# Altium footprint library CartSimple.PCBLIB: 166 footprints (part 6 of 11)
Each footprint in its own frame and in the unit in brackets; x right, y up, seen from the top. Pads: shape width x height; smd on the part's side, far side on the other; paste and mask are expansions set on the pad; w line width, h text height; cw(c..) or ccw(c..) is an arc to the next point about the centre after c.
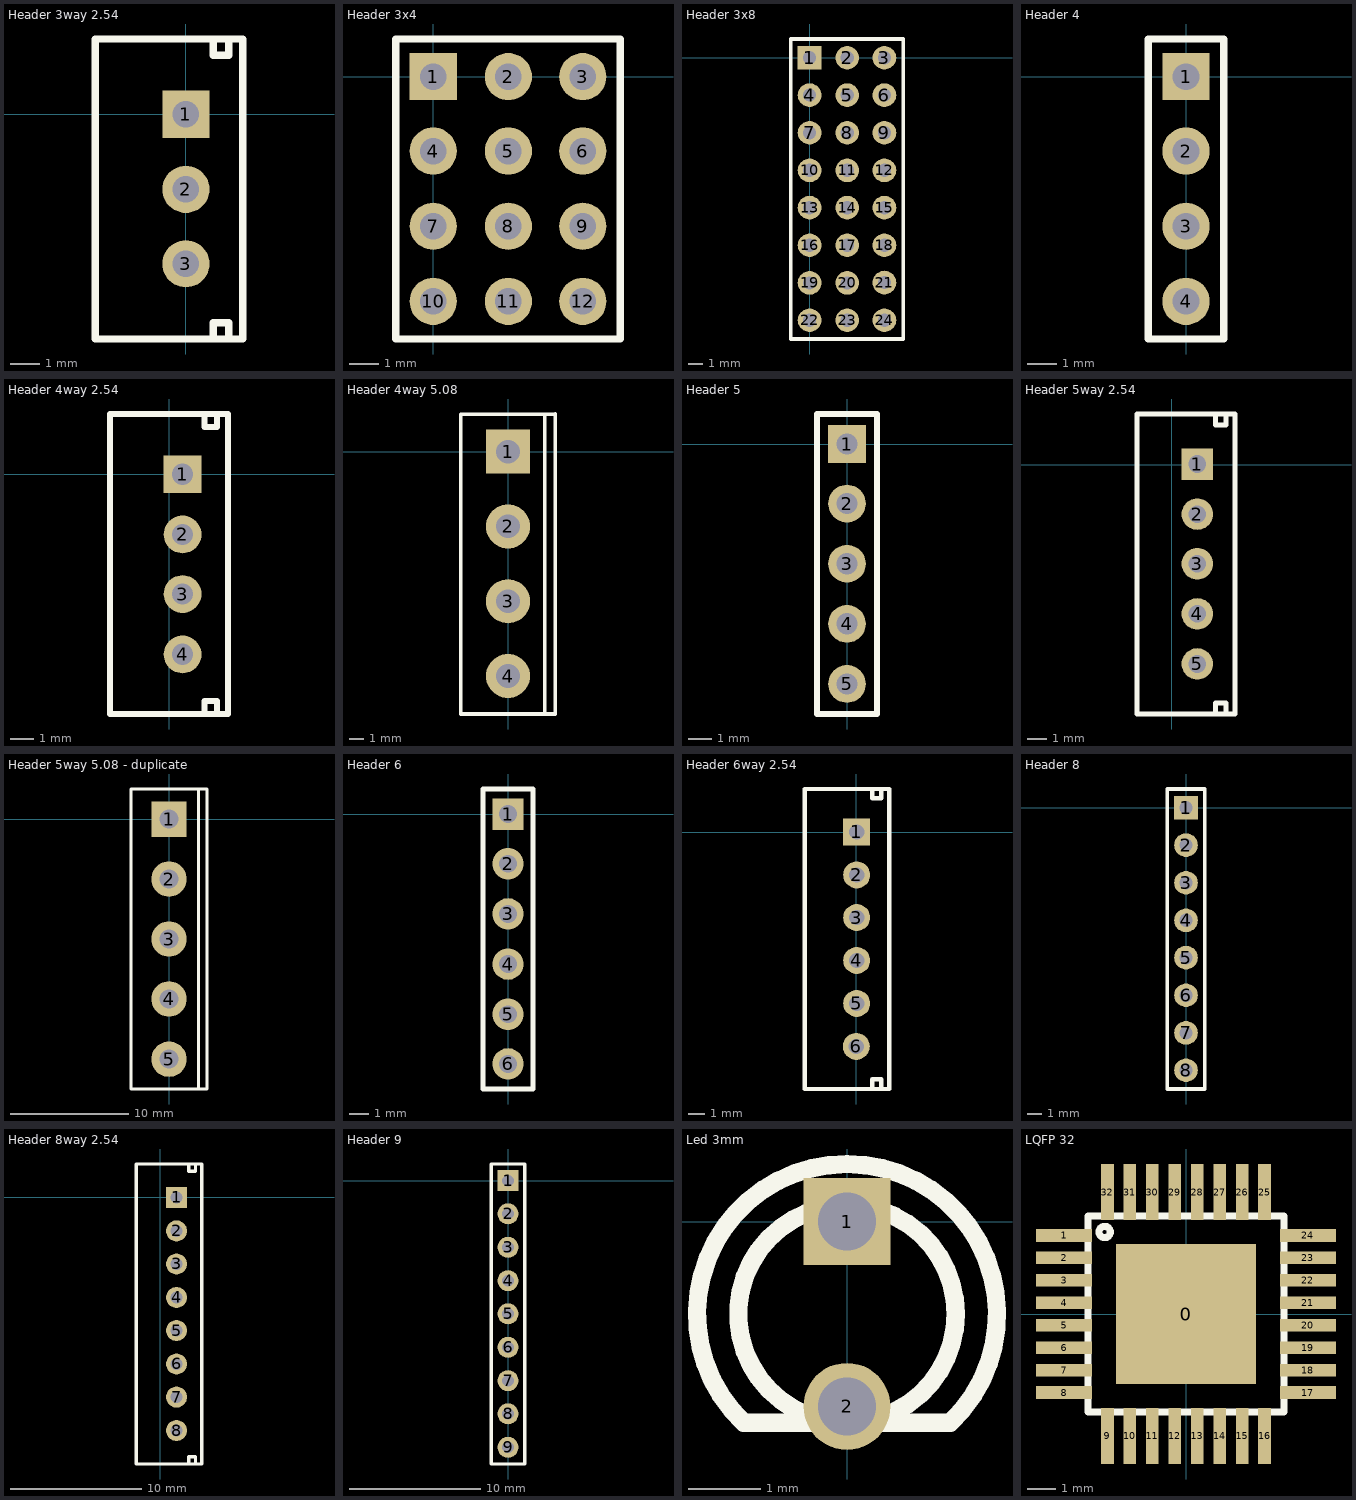
[diagram p5: the footprints below, top view; thin cyan lines are the x and y axes]

## Header 3way 2.54 [mm]
pads (3):
  rect 1.6x1.6 hole 0.9: 1(0,0)
  round 1.6 hole 0.9: 2(0,-2.55) 3(0,-5.075)
Top Overlay:
  lines w0.254: 0.925,-7.625 0.925,-7.075 1.45,-7.075 1.45,-7.625 ; 0.925,2.55 0.925,2 1.45,2 1.45,2.55 ; -3.075,-7.625 -3.075,2.55 1.925,2.55 1.925,-7.625 -3.075,-7.625

## Header 3x4 [mm]
pads (12):
  rect 1.6x1.6 hole 0.9: 1(0,0)
  round 1.6 hole 0.9: 2(2.55,0) 3(5.075,0) 4(0,-2.525) 5(2.55,-2.525) 6(5.075,-2.525) 7(0,-5.075) 8(2.55,-5.075) 9(5.075,-5.075) 10(0,-7.625) 11(2.55,-7.625) 12(5.075,-7.625)
Top Overlay:
  lines w0.254: -1.275,-8.9 6.35,-8.9 6.35,1.275 -1.275,1.275 -1.275,-8.9

## Header 3x8 [mm]
pads (24):
  rect 1.6x1.6 hole 0.9: 1(0,0)
  round 1.6 hole 0.9: 2(2.55,0) 3(5.075,0) 4(0,-2.525) 5(2.55,-2.525) 6(5.075,-2.525) 7(0,-5.075) 8(2.55,-5.075) 9(5.075,-5.075) 10(0,-7.625) 11(2.55,-7.625) 12(5.075,-7.625) 13(0,-10.15) 14(2.55,-10.15) 15(5.075,-10.15) 16(0,-12.7) 17(2.55,-12.7) 18(5.075,-12.7) 19(0,-15.25) 20(2.55,-15.25) 21(5.075,-15.225) 22(0,-17.775) 23(2.55,-17.775) 24(5.075,-17.775)
Top Overlay:
  lines w0.254: -1.275,-19.05 -1.275,1.275 6.35,1.275 6.35,-19.05 -1.275,-19.05

## Header 4 [mm]
pads (4):
  rect 1.6x1.6 hole 0.9: 1(0,0)
  round 1.6 hole 0.9: 2(0,-2.525) 3(0,-5.075) 4(0,-7.625)
Top Overlay:
  lines w0.254: -1.275,-8.9 1.275,-8.9 1.275,1.275 -1.275,1.275 -1.275,-8.9

## Header 4way 2.54 [mm]
pads (4):
  rect 1.6x1.6 hole 0.9: 1(0.575,0)
  round 1.6 hole 0.9: 2(0.575,-2.55) 3(0.575,-5.075) 4(0.575,-7.625)
Top Overlay:
  lines w0.254: 1.5,-10.15 1.5,-9.6 2.025,-9.6 2.025,-10.15 ; 1.5,2.55 1.5,2 2.025,2 2.025,2.55 ; -2.5,-10.15 -2.5,2.55 2.5,2.55 2.5,-10.15 -2.5,-10.15

## Header 4way 5.08 [mm]
pads (4):
  rect 3x3 hole 1.6: 1(0,0)
  round 3 hole 1.6: 2(0,-5.075) 3(0,-10.15) 4(0,-15.225)
Top Overlay:
  lines w0.254: -3.2,-17.8 3.2,-17.8 3.2,2.55 ; -3.2,-17.795 -3.2,2.525 ; -3.2,2.54 3.2,2.54 ; 2.5,-17.8 2.5,2.5

## Header 5 [mm]
pads (5):
  rect 1.6x1.6 hole 0.9: 1(0,0)
  round 1.6 hole 0.9: 2(0,-2.525) 3(0,-5.075) 4(0,-7.625) 5(0,-10.175)
Top Overlay:
  lines w0.254: -1.275,-11.45 -1.275,1.275 1.275,1.275 1.275,-11.45 -1.275,-11.45

## Header 5way 2.54  [mm]
pads (5):
  rect 1.6x1.6 hole 0.9: 1(1.3,0.025)
  round 1.6 hole 0.9: 2(1.3,-2.525) 3(1.3,-5.05) 4(1.3,-7.6) 5(1.3,-10.15)
Top Overlay:
  lines w0.254: 2.225,-12.7 2.225,-12.15 2.75,-12.15 2.75,-12.7 ; 2.225,2.575 2.225,2.025 2.75,2.025 2.75,2.575 ; -1.775,-12.7 -1.775,2.575 3.225,2.575 3.225,-12.7 -1.775,-12.7

## Header 5way 5.08 - duplicate [mm]
pads (5):
  rect 3x3 hole 1.6: 1(0,0)
  round 3 hole 1.6: 2(0,-5.075) 3(0,-10.15) 4(0,-15.225) 5(0,-20.325)
Top Overlay:
  lines w0.254: -3.2,2.54 3.2,2.54 ; -3.2,2.55 -3.2,-22.85 3.2,-22.85 3.2,2.55 ; 2.5,-22.85 2.5,2.55

## Header 6 [mm]
pads (6):
  rect 1.6x1.6 hole 0.9: 1(0,0)
  round 1.6 hole 0.9: 2(0,-2.525) 3(0,-5.075) 4(0,-7.625) 5(0,-10.175) 6(0,-12.7)
Top Overlay:
  lines w0.254: -1.275,-13.975 1.275,-13.975 1.275,1.275 -1.275,1.275 -1.275,-13.975

## Header 6way 2.54 [mm]
pads (6):
  rect 1.6x1.6 hole 0.9: 1(0.025,0.025)
  round 1.6 hole 0.9: 2(0.025,-2.525) 3(0.025,-5.05) 4(0.025,-7.6) 5(0.025,-10.15) 6(0,-12.7)
Top Overlay:
  lines w0.254: 0.95,-15.2 0.95,-14.65 1.475,-14.65 1.475,-15.2 ; 0.95,2.575 0.95,2.025 1.475,2.025 1.475,2.575 ; -3.05,-15.225 -3.05,2.575 1.95,2.575 1.95,-15.225 -3.05,-15.225

## Header 8 [mm]
pads (8):
  rect 1.6x1.6 hole 0.9: 1(0,0)
  round 1.6 hole 0.9: 2(0,-2.525) 3(0,-5.075) 4(0,-7.625) 5(0,-10.15) 6(0,-12.7) 7(0,-15.25) 8(0,-17.775)
Top Overlay:
  lines w0.254: -1.275,-19.05 1.275,-19.05 1.275,1.275 -1.275,1.275 -1.275,-19.05

## Header 8way 2.54 [mm]
pads (8):
  rect 1.6x1.6 hole 0.9: 1(1.25,0)
  round 1.6 hole 0.9: 2(1.25,-2.55) 3(1.25,-5.075) 4(1.25,-7.625) 5(1.25,-10.15) 6(1.25,-12.7) 7(1.25,-15.225) 8(1.25,-17.775)
Top Overlay:
  lines w0.254: 2.175,-20.325 2.175,-19.775 2.7,-19.775 2.7,-20.325 ; 2.175,2.55 2.175,2 2.7,2 2.7,2.55 ; -1.825,-20.325 3.175,-20.325 3.175,2.55 -1.825,2.55 -1.825,-20.325

## Header 9 [mm]
pads (9):
  rect 1.6x1.6 hole 0.9: 1(0,0)
  round 1.6 hole 0.9: 2(0,-2.525) 3(0,-5.075) 4(0,-7.625) 5(0,-10.15) 6(0,-12.7) 7(0,-15.25) 8(0,-17.775) 9(0,-20.325)
Top Overlay:
  lines w0.254: -1.275,-21.6 -1.275,1.275 1.275,1.275 1.275,-21.6 -1.275,-21.6

## Led 3mm [mm]
pads (2):
  rect 1.2x1.2 hole 0.8: 1(0,0)
  round 1.2 hole 0.8: 2(0,-2.55)
Top Overlay:
  circle w0.254: c0,-1.275 r1.5
  lines w0.254: -1.425,-2.775 cw(c0,-1.275) 1.425,-2.775 -1.425,-2.775

## LQFP 32 [mm]
pads (33):
  rect 5x5 smd: 0(0,0)
  rect 2x0.45 smd: 1(-4.35,2.8) 2(-4.35,2) 3(-4.35,1.2) 4(-4.35,0.4) 5(-4.35,-0.4) 6(-4.35,-1.2) 7(-4.35,-2) 8(-4.35,-2.8) 17(4.35,-2.8) 18(4.35,-2) 19(4.35,-1.2) 20(4.35,-0.4) 21(4.35,0.4) 22(4.35,1.2) 23(4.35,2) 24(4.35,2.8)
  rect 0.45x2 smd: 9(-2.8,-4.35) 10(-2,-4.35) 11(-1.2,-4.35) 12(-0.4,-4.35) 13(0.4,-4.35) 14(1.2,-4.35) 15(2,-4.35) 16(2.8,-4.35) 25(2.8,4.35) 26(2,4.35) 27(1.2,4.35) 28(0.4,4.35) 29(-0.4,4.35) 30(-1.2,4.35) 31(-2,4.35) 32(-2.8,4.35)
Top Overlay:
  circle w0.254: c-2.902,2.925 r0.202
  lines w0.254: -3.5,-3.5 -3.5,3.5 3.5,3.5 3.5,-3.5 -3.5,-3.5